# Altium schematic symbol library Linear_Technology_LT6003HS5_TRPBF.SchLib: 1 symbol
Pins are listed as number, name and electrical type; pins without a type are passive.

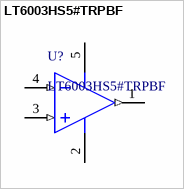
[diagram p0: symbol LT6003HS5#TRPBF]

## LT6003HS5#TRPBF
designator U?
Single Channel, Precision Operational Amplifier, RRIO, 0.002 MHz Typical GBW, 0.0008 V/us Typical SR, 1.6 to 16 V, 5-Pin SOT23 (S5-5), High Temperature / Automotive, Pb-Free, Reel; Linear Technology Part Number: LT6003; Manufacturer: Linear Technology; SR (V/us) Typical: 0.0008; Vs Max (V): 16; Vos (mV) Guaranteed: 0.5; Channels (#): 1; Vs Min (V): 1.6; Vos (mV) Typical: 0.175; Is (mA) Typical: 0.00085; GBW (MHz) Typical: 0.002; PartNumber: LT6003HS5#TRPBF; Type: VFB; ComponentLink1Description: Datasheet; ComponentLink2Description: Package Specification; DatasheetVersion: Rev. D; ComponentLink1URL: http://cds.linear.com/docs/Datasheet/600345fd.pdf; Code_JEDEC: MO-193; Packing: Reel; ComponentLink2URL: http://cds.linear.com/docs/Packaging/SOT_5_05-08-1635.pdf; RoHS: Pb-Free; Mounting Technology: Surface Mount; PackageReference: LT-S5-5-TSOT-23; PackageDescription: 5-Lead Plastic TSOT-23, Body 1.63 x 2.90 mm, Pitch 0.95 mm
footprint LT-S5-5-TSOT-23_N
pins: 1 OUT (out), 2 V- (power), 3 +IN (in), 4 -IN (in), 5 V+ (power)